# EAGLE library part CS4270-CZZR (library CS4270-CZZR)
Interface - CODECs IC 105dB 192kHz Stereo Codec Source: Datasheet <http://www.mouser.com/ds/2/76/CS4270_F1-39353.pdf>
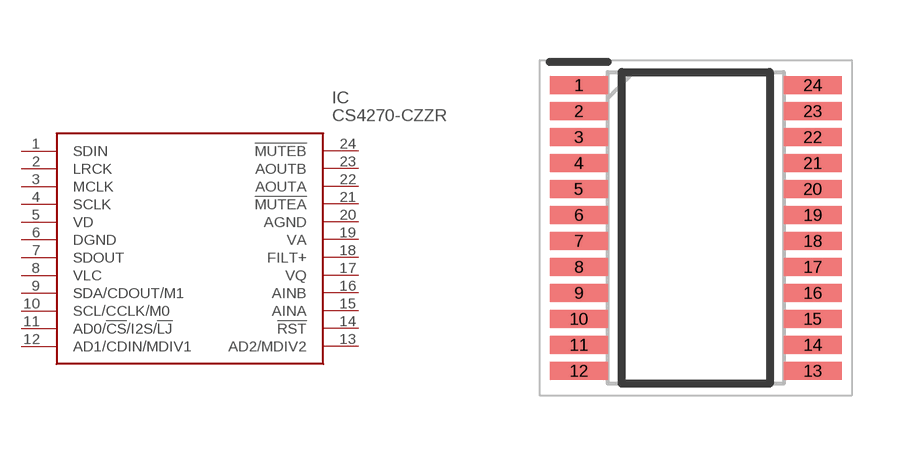
[diagram p0: symbol with the pads of SOP65P640X120-24N; footprint SOP65P640X120-24N]

Designator prefix IC

## CS4270-CZZR (Arrow_Part_Number: CS4270-CZZR; Description: Interface - CODECs IC 105dB 192kHz Stereo Codec; Height: 1.2mm; Manufacturer_Name: Cirrus Logic; Manufacturer_Part_Number: CS4270-CZZR; Mouser_Part_Number: 777-CS4270-CZZR; Mouser_Price-Stock: https://www.mouser.co.uk/ProductDetail/Cirrus-Logic/CS4270-CZZR?qs=bUPhaerQQeGUCIrqegOqfg%3D%3D)  [SOP65P640X120-24N]
1  SDIN
2  LRCK
3  MCLK
4  SCLK
5  VD
6  DGND
7  SDOUT
8  VLC
9  SDA/CDOUT/M1
10  SCL/CCLK/M0
11  AD0/!CS!/I2S/!LJ
12  AD1/CDIN/MDIV1
13  AD2/MDIV2
14  !RST
15  AINA
16  AINB
17  VQ
18  FILT+
19  VA
20  AGND
21  !MUTEA
22  AOUTA
23  AOUTB
24  !MUTEB

## Footprint SOP65P640X120-24N (pad centres in mm)
24L TSSOP (4.4 mm BODY)
smd 1.45 x 0.45: 1 -2.925,3.575; 2 -2.925,2.925; 3 -2.925,2.275; 4 -2.925,1.625; 5 -2.925,0.975; 6 -2.925,0.325; 7 -2.925,-0.325; 8 -2.925,-0.975; 9 -2.925,-1.625; 10 -2.925,-2.275; 11 -2.925,-2.925; 12 -2.925,-3.575; 13 2.925,-3.575; 14 2.925,-2.925; 15 2.925,-2.275; 16 2.925,-1.625; 17 2.925,-0.975; 18 2.925,-0.325; 19 2.925,0.325; 20 2.925,0.975; 21 2.925,1.625; 22 2.925,2.275; 23 2.925,2.925; 24 2.925,3.575